# EAGLE library part MCP4822 (library joep-custom)
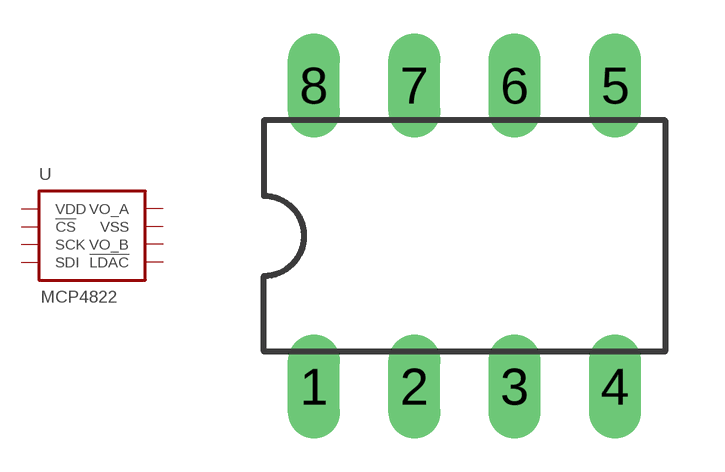
[diagram p2: symbol with the pads of DIL-8; footprint DIL-8]

Designator prefix -

## MCP4822  [DIL-8]
1  VDD
2  !CS
3  SCK
4  SDI
5  !LDAC
6  VO_B
7  VSS
8  VO_A

## Footprint DIL-8 (pad centres in mm)
drill 0.813 long: 1 -3.81,-3.81; 2 -1.27,-3.81; 3 1.27,-3.81; 4 3.81,-3.81; 5 3.81,3.81; 6 1.27,3.81; 7 -1.27,3.81; 8 -3.81,3.81